# EAGLE library part HR30-7R-12PD(71) (library hisense)
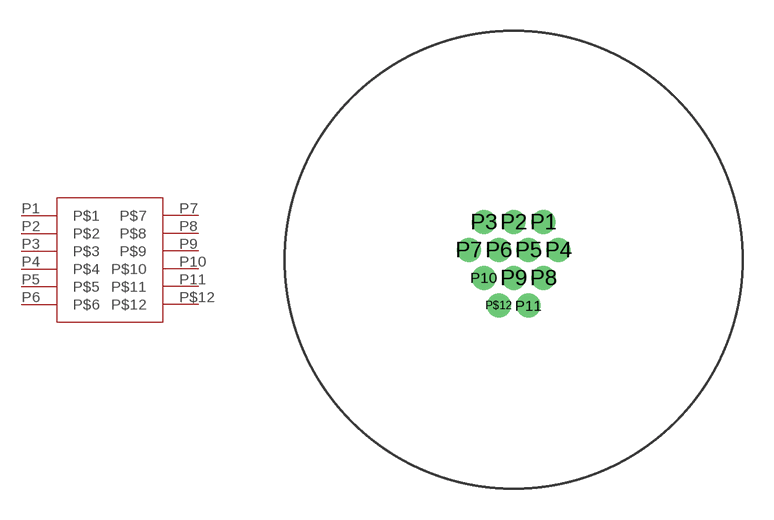
[diagram p0: symbol with the pads of HR30-7R-12PD(71); footprint HR30-7R-12PD(71)]

Designator prefix -

## HR30-7R-12PD(71)  [HR30-7R-12PD(71)]
P1  P$1
P2  P$2
P3  P$3
P4  P$4
P5  P$5
P6  P$6
P7  P$7
P8  P$8
P9  P$9
P10  P$10
P11  P$11
P$12  P$12

## Footprint HR30-7R-12PD(71) (pad centres in mm)
drill 0.65 pad 1.016: P1 1.44,1.83; P2 0,1.83; P3 -1.44,1.83; P4 2.16,0.48; P5 0.72,0.48; P6 -0.72,0.48; P7 -2.16,0.48; P8 1.44,-0.87; P9 0,-0.87; P10 -1.44,-0.87; P11 0.72,-2.22; P$12 -0.72,-2.22